# Altium footprint library clock_controller.PcbLib: 17 footprints (part 1 of 2)
Each footprint in its own frame and in the unit in brackets; x right, y up, seen from the top. Pads: shape width x height; smd on the part's side, far side on the other; paste and mask are expansions set on the pad; w line width, h text height; cw(c..) or ccw(c..) is an arc to the next point about the centre after c.
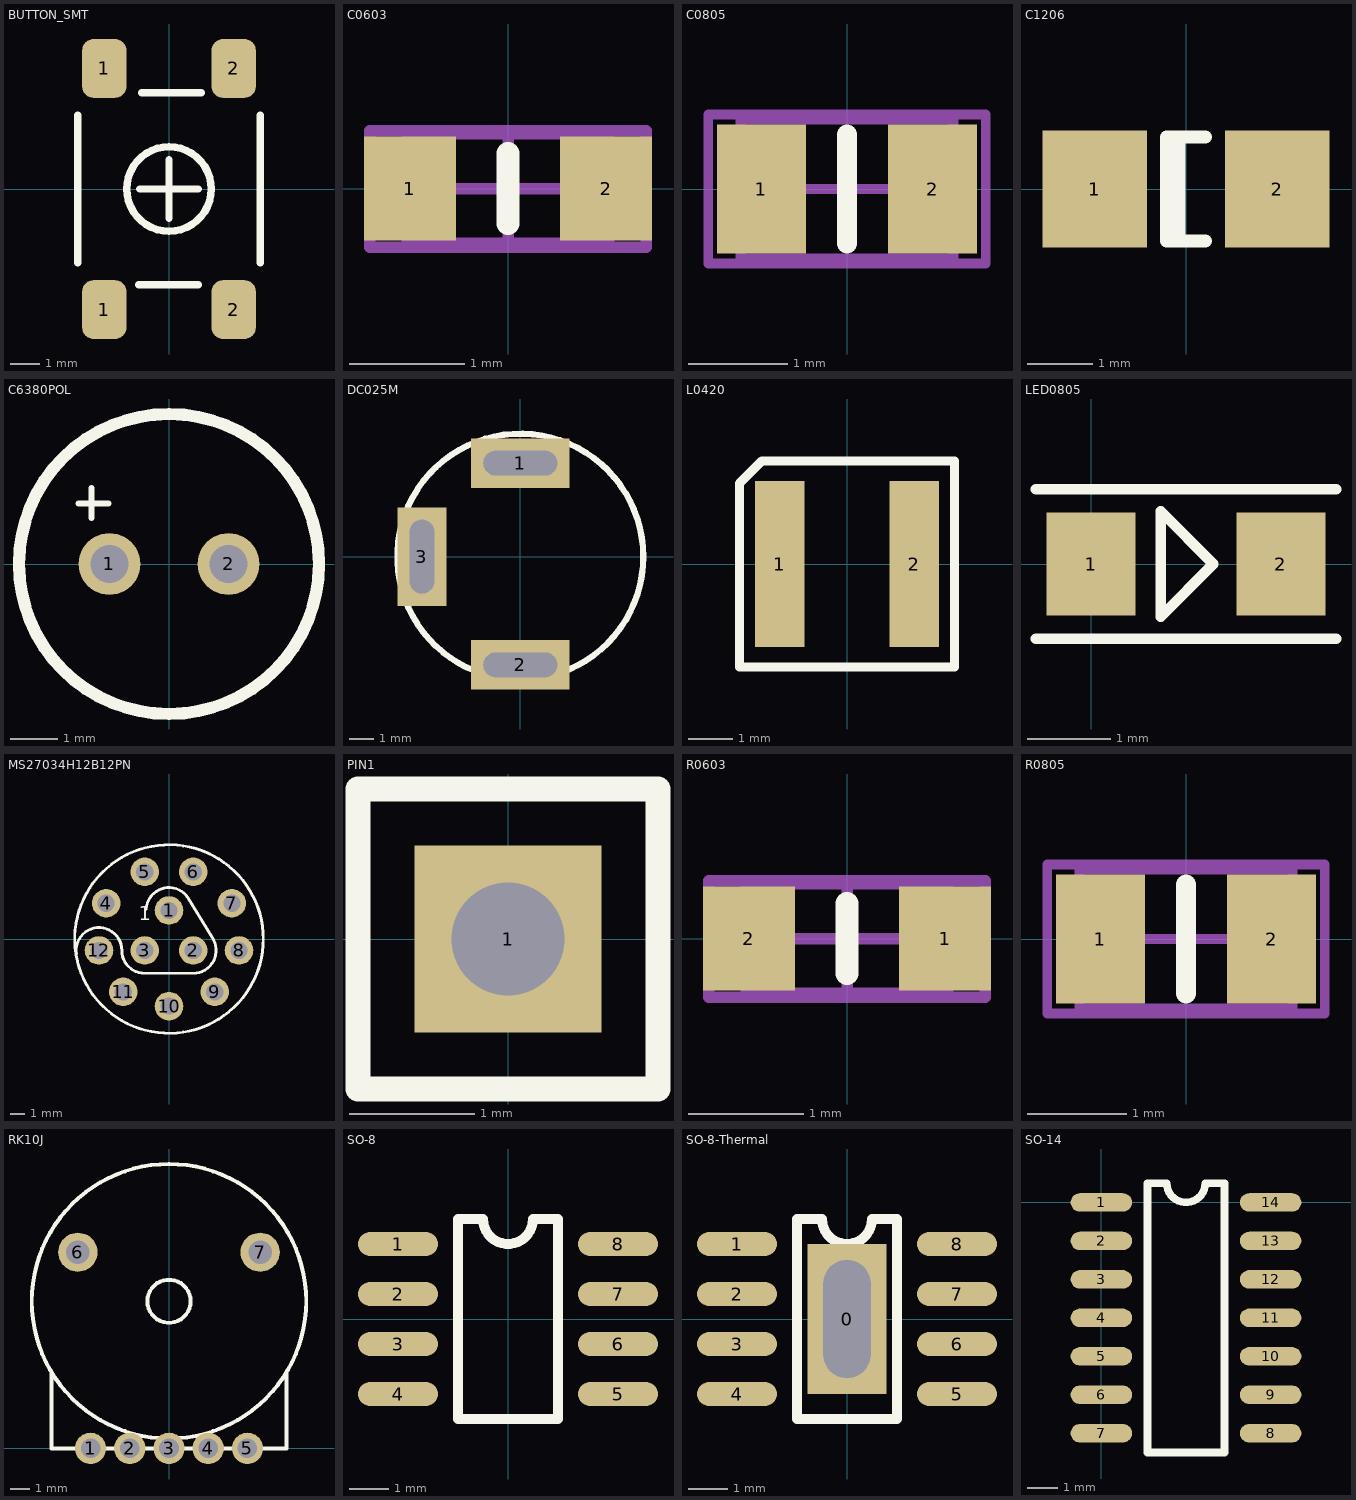
[diagram p0: the footprints below, top view; thin cyan lines are the x and y axes]

## BUTTON_SMT [mm]
pads (4):
  rrect50% 1.5x2 smd: 1(-2.2,-4.1) 1(-2.2,4.1) 2(2.2,-4.1) 2(2.2,4.1)
Top Overlay:
  circle w0.254: c0,0 r1.437
  lines w0.254: -3.1,-2.5 -3.1,2.5 ; -1.036,-3.262 0.996,-3.262 ; -1,0 1,0 ; -0.934,3.266 1.098,3.266 ; 0,-1 0,1 ; 3.1,-2.5 3.1,2.5
3D body: height 2, standoff 0, extent 1.4,3.1 3,3.5
3D body: height 2, standoff 0, extent -3,3.1 -1.4,3.5
3D body: height 2, standoff 0, extent 1.4,-3.5 3,-3.1
3D body: height 2.5, standoff 0, extent -3.1,-3.15 3,3.15
3D body: height 7.5, standoff 2.5, extent -1.488,-1.497 1.5,1.497
3D body: height 2, standoff 0, extent -3,-3.5 -1.4,-3.1

## C0603 [mm] "Chip Capacitor, Body 1.6x0.8mm, IPC High Density"
height 1.3
pads (2):
  rect 0.8x0.9 smd: 1(-0.852,0) 2(0.852,0)
Top Overlay:
  lines w0.2: 0,-0.305 0,0.305
Mechanical 13:
  lines w0.1: -0.875,-0.475 0.875,-0.475 0.875,0.475 -0.875,0.475 -0.875,-0.475
Mechanical 15:
  lines w0.1: -0.475,0 0.475,0 ; 0,-0.475 0,0.475 ; -1.2,-0.508 1.2,-0.508 1.2,0.5 -1.2,0.5 -1.2,-0.508
3D body: height 0.76, standoff 0, extent -1.027,-0.5 1.016,0.45

## C0805 [mm] "Chip Capacitor, Body 2.0x1.2mm, IPC High Density"
height 0.7
pads (2):
  rect 0.9x1.3 smd: 1(-0.864,0) 2(0.864,0)
Top Overlay:
  lines w0.2: 0,-0.55 0,0.55
Mechanical 13:
  lines w0.1: -1.075,-0.7 1.075,-0.7 1.075,0.7 -1.075,0.7 -1.075,-0.7
Mechanical 15:
  lines w0.1: -0.5,0 0.5,0 ; 0,-0.5 0,0.5 ; -1.4,-0.75 1.4,-0.75 1.4,0.75 -1.4,0.75 -1.4,-0.75
3D body: height 0.7, standoff 0, extent -1.075,-0.7 1.075,0.7

## C1206 [mm] "Chip Capacitor; Body 3.2 x 1.6 mm (LxW typ)"
height 1.35
pads (2):
  rect 1.6x1.8 smd: 1(-1.4,0) 2(1.4,0)
Top Overlay:
  lines w0.2: -0.11,-0.8 -0.11,0.8 ; 0.3,-0.8 -0.3,-0.8 -0.3,0.8 0.3,0.8
3D body: height 1.5, standoff 0.1, extent -1.016,-0.762 1.016,0.762
3D body: height 1.55, standoff 0, extent -1.524,-0.813 -1.016,0.813
3D body: height 1.55, standoff 0, extent 1.016,-0.813 1.524,0.813

## C6380POL [mm]
pads (2):
  round 1.3 hole 0.8: 1(-1.25,0) 2(1.25,0)
Top Overlay:
  circle w0.254: c0,0 r3.15
  lines w0.127: -1.905,1.27 -1.27,1.27 ; -1.626,0.965 -1.626,1.6
3D body: height 8, standoff 0, extent -3.125,-3.144 3.15,3.144

## DC025M [mm] "DC025M 2.1mmо"
pads (3):
  rect 4x2 hole 1 slot 3 at 0 deg: 1(0,3.8) 2(0,-4.4)
  rect 2x4 hole 1 slot 3 at 90 deg: 3(-4,0)
Top Overlay:
  circle w0.254: c0,0 r5
3D body: height 3, standoff -6, extent -1.3,3.5 1.3,4.1
3D body: height 3, standoff -6, extent -4.4,-1 -3.6,1
3D body: height 3, standoff -6, extent -1.3,-4.7 1.3,-4.1
3D body: height 15.1, standoff 9.6, extent -4,-3.997 4,3.997
3D body: height 9.6, standoff 7.6, extent -5.4,-5.4 5.4,5.4
3D body: height 7.6, standoff 0.1, extent -4.1,-4.1 4.1,4.1

## L0420 [mm]
height 3
pads (2):
  rect 1.1x3.7 smd: 1(-1.5,0) 2(1.5,0)
Top Overlay:
  lines w0.203: -2.4,-2.3 2.4,-2.3 2.4,0.5 2.4,2.3 -1.9,2.3 -2.4,1.8 -2.4,-2.3
3D body: height 2, standoff 0.2, extent -2,-2 2,2

## LED0805 [mm]
height 0.8
pads (2):
  rect 1.07x1.24 smd: 1(0,0) 2(2.286,0)
Top Overlay:
  lines w0.127: -0.662,-0.902 2.948,-0.902 ; -0.662,0.902 2.948,0.902 ; 0.838,-0.635 0.838,0.635 1.473,0 0.838,-0.635

## MS27034H12B12PN [mm]
pads (12):
  round 2 / inner round 2.5 / far side round 2.5 hole 1.2: 1(0,2) 2(1.7,-0.8) 3(-1.7,-0.8) 4(-4.4,2.5) 5(-1.7,4.7) 6(1.7,4.7) 7(4.4,2.5) 8(4.9,-0.8) 9(3.2,-3.7) 10(0,-4.7) 11(-3.2,-3.7) 12(-4.9,-0.8)
Top Overlay:
  circle w0.203: c0,0 r6.6
  lines w0.203: -6.479,-1.058 cw(c-4.9,-0.8) -3.3,-0.8 ccw(c-1.7,-0.8) -1.7,-2.4 1.7,-2.4 ccw(c1.7,-0.8) 3.016,0.111 1.316,2.911 ccw(c0,2) -1.598,2.08
  text "1" at -2.1,1.3 h1
Bottom Overlay:
  circle w0.203: c0,0 r10.5
  circle w0.203: c0,0 r10

## PIN1 [mm] "Connector; Plug"
pads (1):
  rect 1.5x1.5 hole 0.9: 1(0,0)
Top Overlay:
  lines w0.2: -1.2,-1.2 -1.2,1.2 1.2,1.2 1.2,-1.2 -1.2,-1.2

## R0603 [mm] "Chip Resistor, Body 1.6x0.8mm, IPC High Density"
height 1.3
pads (2):
  rect 0.8x0.9 smd: 1(0.852,0) 2(-0.852,0)
Top Overlay:
  lines w0.2: 0,-0.305 0,0.305
Mechanical 13:
  lines w0.1: -0.875,-0.475 0.875,-0.475 0.875,0.475 -0.875,0.475 -0.875,-0.475
Mechanical 15:
  lines w0.1: -0.475,0 0.475,0 ; 0,-0.475 0,0.475 ; -1.2,-0.508 1.2,-0.508 1.2,0.5 -1.2,0.5 -1.2,-0.508
3D body: height 0.76, standoff 0, extent -1.027,-0.5 1.016,0.45

## R0805 [mm] "Chip Resistor, Body 2.0x1.2mm, IPC High Density"
height 0.7
pads (2):
  rect 0.9x1.3 smd: 1(-0.864,0) 2(0.864,0)
Top Overlay:
  lines w0.2: 0,-0.55 0,0.55
Mechanical 13:
  lines w0.1: -1.075,-0.7 -1.075,0.7 1.075,0.7 1.075,-0.7 -1.075,-0.7
Mechanical 15:
  lines w0.1: -0.5,0 0.5,0 ; 0,-0.5 0,0.5 ; -1.4,-0.75 -1.4,0.75 1.4,0.75 1.4,-0.75 -1.4,-0.75
3D body: height 0.7, standoff 0, extent -1.075,-0.7 1.075,0.7

## RK10J [mm]
pads (7):
  round 1.6 hole 1: 1(-4,0) 2(-2,0) 3(0,0) 4(2,0) 5(4,0)
  round 2 hole 1.2: 6(-4.65,10) 7(4.65,10)
Top Overlay:
  circle w0.203: c0,7.5 r7
  circle w0.203: c0,7.5 r1.1
  lines w0.203: -6,3.9 -6,0 4,0 6,0 6,3.9

## SO-8 [mil]
pads (8):
  oval 80x24 smd: 1(-110,75) 2(-110,25) 3(-110,-25) 4(-110,-75) 5(110,-75) 6(110,-25) 7(110,25) 8(110,75)
Top Overlay:
  lines w10: -50,-100 50,-100 50,100 25,100 cw(c0,100) -25,100 -50,100 -50,-100
3D body: height 66.93, standoff 3.94, extent -78.74,-98.43 78.74,98.43

## SO-8-Thermal [mil]
pads (9):
  rect 78.74x149.61 hole 47.24 slot 118.11 at 90 deg: 0(0,0)
  oval 80x24 smd: 1(-110,75) 2(-110,25) 3(-110,-25) 4(-110,-75) 5(110,-75) 6(110,-25) 7(110,25) 8(110,75)
Top Overlay:
  lines w10: -50,-100 -50,100 -25,100 ccw(c0,100) 25,100 50,100 50,-100 -50,-100
3D body: height 66.93, standoff 3.94, extent -78.74,-98.43 78.74,98.43

## SO-14 [mil]
pads (14):
  oval 80x24 smd: 1(0,0) 2(0,-50) 3(0,-100) 4(0,-150) 5(0,-200) 6(0,-250) 7(0,-300) 8(220,-300) 9(220,-250) 10(220,-200) 11(220,-150) 12(220,-100) 13(220,-50) 14(220,0)
Top Overlay:
  lines w10: 60,-325 60,25 85,25 ccw(c110,25) 135,25 160,25 160,-325 60,-325
3D body: height 104.33, standoff 3.94, extent 21,-336 191,34